# Altium schematic symbol library E-Card.SchLib: 25 symbols
Pins are listed as number, name and electrical type; pins without a type are passive.

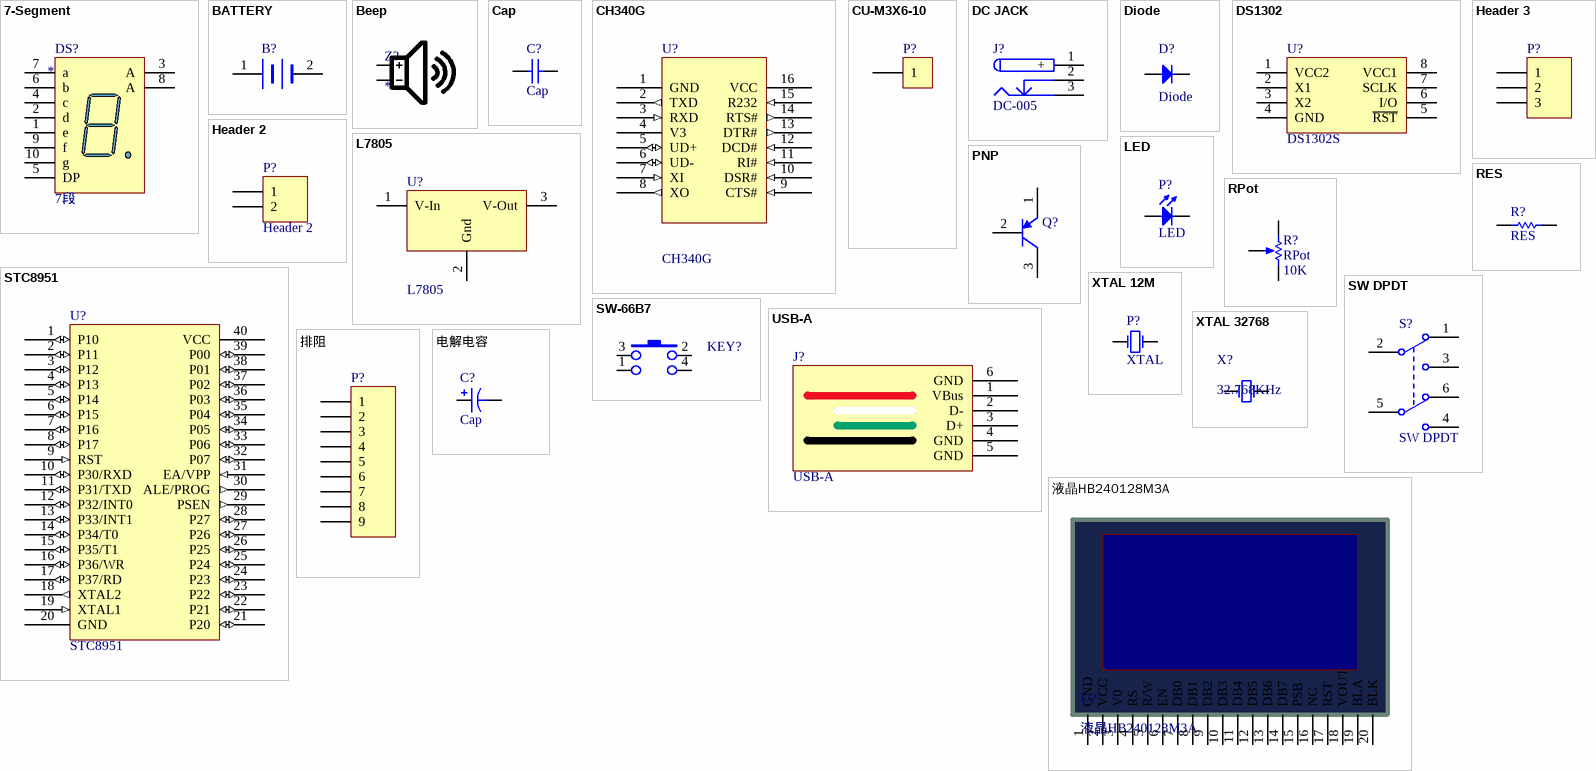
[diagram p0: symbols 7-Segment to 电解电容]

## 7-Segment
designator DS?
14.2 mm General Purpose Blue 7-Segment Display: CA, RH DP, Gray Surface; MinimumIntensity: 2020 ucd; Note: IF = 10 mA; Published: 8-Jun-2000; LatestRevisionDate: 17-Dec-2003; LatestRevisionNote: Schematic revised, PCB Footprint replaced.; DatasheetVersion: 24-Sep-2002; PackageVersion: 24-Sep-2002; PackageReference: H; Publisher: Altium Limited; Colour: Blue; ComponentLink1Description: Manufacturer Link; ComponentLink1URL: http://www.agilent.com/
footprint 7-Segment (LED, 7-Segment Display, 14.2 mm, RHD; 10 Leads; Row Space 15.24 mm; Pitch 2.54 mm)
pins: 1 e "Cathode", 2 d "Cathode", 3 A "Common Anode", 4 c "Cathode", 5 DP "Cathode", 6 b "Cathode", 7 a "Cathode", 8 A "Common Anode", 9 f "Cathode", 10 g "Cathode"
text: 7段

## BATTERY
designator B?, comment CR1220  (value not drawn)
footprint BATTERY (CR1220)
pins: 1 +, 2 -

## Beep
designator Z?
蜂鸣器
footprint Beep (7.62脚距，12x9.5蜂鸣器)
pins: 1, 2

## Cap
designator C?
普通电容
footprint Cap
pins: 1, 2

## CH340G
designator U?
USB to TTL Serial / UART
footprint CH340G (USB to TTL Serial / UART)
pins: 1 GND (power), 2 TXD (out), 3 RXD (in), 4 V3 (power), 5 UD+ (io), 6 UD- (io), 7 XI (in), 8 XO (out), 9 CTS# (in), 10 DSR# (in), 11 RI# (in), 12 DCD# (in), 13 DTR# (out), 14 RTS# (out), 15 R232 (in), 16 VCC (power)

## CU-M3X6-10
designator P?
10mm长M3六角铜柱; LatestRevisionDate: 17-Jul-2002; LatestRevisionNote: Re-released for DXP Platform.; Publisher: Altium Limited
footprint CU-M3X6-10 (10mm长M3六角铜柱)
pins: 1

## DC JACK
designator J?, comment DC-005
DC 电源座; Manufacturer: Kycon; Fitted: True
footprint DC JACK (DC Power Jack, 2.5mm, KLD Series, PCB Mount)
pins: 1 + (power), 2 (power), 3 - (power)

## Diode
designator D?
二极管; Published: 8-Jun-2000; LatestRevisionDate: 17-Jul-2002; LatestRevisionNote: Re-released for DXP Platform.; PackageDocument: Sep-1996; PackageReference: SMC; Publisher: Altium Limited; Code_JEDEC: DO-214-AB
footprint Diode (二极管封装（针式）)
pins: 1 A, 2 K

## DS1302
designator U?, comment DS1302S
时钟芯片 SOP127P780-8
footprint DS1302 (SOP127P780-8,SOP, 8-Leads, Body 5.3x5.3mm, Pitch 1.27mm, IPC Medium Density)
pins: 1 VCC2, 2 X1, 3 X2, 4 GND, 5 ~{RST}, 6 I/O, 7 SCLK, 8 VCC1

## Header 2
designator P?
针座/孔座 180度; LatestRevisionDate: 17-Jul-2002; LatestRevisionNote: Re-released for DXP Platform.; Publisher: Altium Limited
footprint Header 2 (Connector; Header; 2 Position)
pins: 1, 2

## Header 3
designator P?
Header, 3-Pin; LatestRevisionDate: 17-Jul-2002; LatestRevisionNote: Re-released for DXP Platform.; Publisher: Altium Limited
footprint Header 3 (Connector; Header; 3 Position)
pins: 1, 2, 3

## L7805
designator U?
1.5A Vin:40V(max) Vout:5-24V -55 ~ 150°C LDO稳压器
footprint L7805
pins: 1 V-In, 2 Gnd, 3 V-Out

## LED
designator P?
LED灯
footprint LED
pins: 1 A, 2 K

## PNP
designator Q?
PNP Bipolar Transistor; Published: 8-Jun-2000; LatestRevisionDate: 17-Jul-2002; LatestRevisionNote: Re-released for DXP Platform.; PackageReference: SOT-23B; Publisher: Altium Limited; Code_JEDEC: SOT-23
footprint PNP (TO-92(TO-92-3))
pins: 1 E, 2 B, 3 C

## RES
designator R?
电阻
footprint RES
pins: 1, 2

## RPot
designator R?  value 10K
可调 电阻; Sim Note: Enter the Resistance value and the set point into parameter fields.; Set Position: 0.5; Published: 8-Jun-2000; LatestRevisionDate: 17-Jul-2002; LatestRevisionNote: Re-released for DXP Platform.; PackageReference: VR5; Publisher: Altium Limited
footprint RPot (可变电阻)
pins: 1 BOT, 2 TOP, 3 TAP
1 alternate drawing of the same symbol

## STC8951
designator U?
51单片机
footprint STC8951
pins: 1 P10 (io), 2 P11 (io), 3 P12 (io), 4 P13 (io), 5 P14 (io), 6 P15 (io), 7 P16 (io), 8 P17 (io), 9 RST (in), 10 P30/RXD (io), 11 P31/TXD (io), 12 P32/INT0 (io), 13 P33/INT1 (io), 14 P34/T0 (io), 15 P35/T1 (io), 16 P36/WR (io), 17 P37/RD (io), 18 XTAL2 (out), 19 XTAL1 (in), 20 GND (power), 21 P20 (io), 22 P21 (io), 23 P22 (io), 24 P23 (io), 25 P24 (io), 26 P25 (io), 27 P26 (io), 28 P27 (io), 29 PSEN (out), 30 ALE/PROG (out), 31 EA/VPP (in), 32 P07 (io), 33 P06 (io), 34 P05 (io), 35 P04 (io), 36 P03 (io), 37 P02 (io), 38 P01 (io), 39 P00 (io), 40 VCC (power)

## SW DPDT
designator S?
自锁开关 （双刀双掷）; Published: 24-Mar-1999; LatestRevisionDate: 17-Jul-2002; LatestRevisionNote: Re-released for DXP Platform.; PackageReference: SOT23-6; Publisher: Altium Limited
footprint SW DPDT (自锁开关)
pins: 1 NC1, 2 COMMON1, 3 NO1, 4 NO2, 5 COMMON2, 6 NC2

## SW-66B7
designator KEY?  (value not drawn)
footprint SW-66 (6×6轻触开关)
pins: 1, 2, 3, 4

## USB-A
designator J?
footprint USB-A
pins: 1 VBus, 2 D-, 3 D+, 4 GND, 5 GND, 6 GND

## XTAL 12M
designator P?, comment XTAL
12MHZ振荡器 【2PIN】
footprint XTAL 12M
pins: 1 OSC1, 2 OSC2

## XTAL 32768
designator X?, comment 32.768KHz
32768HZ振荡器 【2PIN】
footprint XTAL 32768 (32768Hz圆柱形晶振)
pins: 1, 2 (power)

## 排阻
designator P?
Header, 9-Pin; LatestRevisionDate: 17-Jul-2002; LatestRevisionNote: Re-released for DXP Platform.; Publisher: Altium Limited
footprint 排阻
pins: 1, 2, 3, 4, 5, 6, 7, 8, 9

## 液晶HB240128M3A
designator U?
footprint LCD12864
pins: 1 GND, 2 VCC, 3 V0, 4 RS, 5 R/W, 6 EN, 7 DB0, 8 DB1, 9 DB2, 10 DB3, 11 DB4, 12 DB5, 13 DB6, 14 DB7, 15 PSB, 16 NC, 17 RST, 18 VOUT, 19 BLA, 20 BLK

## 电解电容
designator C?, comment Cap
电解电容
footprint 电解电容 (Footprint not found)
pins: 1, 2